# Altium footprint library Loggerhead.PcbLib: 175 footprints (part 8 of 11)
Each footprint in its own frame and in the unit in brackets; x right, y up, seen from the top. Pads: shape width x height; smd on the part's side, far side on the other; paste and mask are expansions set on the pad; w line width, h text height; cw(c..) or ccw(c..) is an arc to the next point about the centre after c.
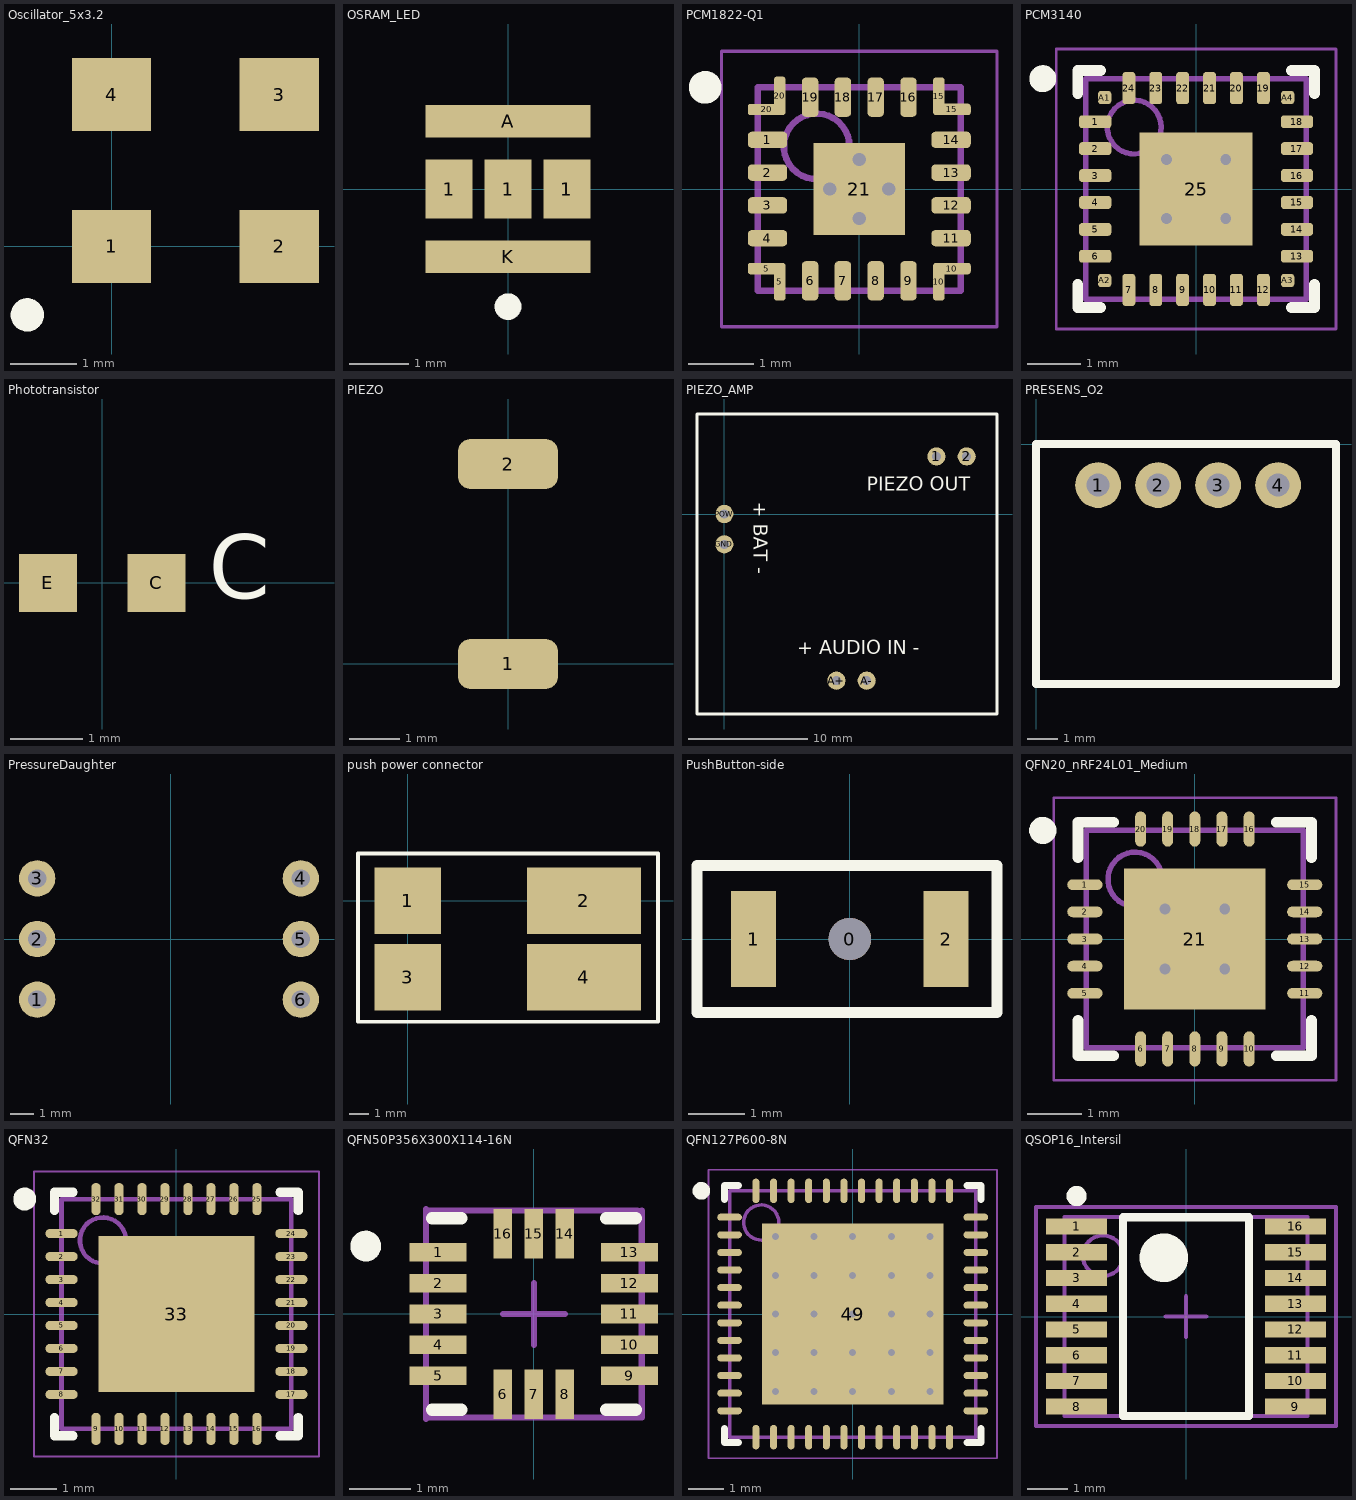
[diagram p7: the footprints below, top view; thin cyan lines are the x and y axes]

## Oscillator_5x3.2 [mm] "Abracon ASFLMB"
height 0.85
pads (4):
  rect 1.2x1.1 smd: 1(0,0) 2(2.54,0) 3(2.54,2.3) 4(0,2.3)
Top Overlay:
  circle w0.254: c-1.275,-1.035 r0.125

## OSRAM_LED [mm] "OSRAM LUW CN5M"
height 2.35
pads (5):
  rect 0.8x1 smd mask+0: 1(-1,0) 1(0,0) 1(1,0)
  rect 2.8x0.55 smd: A(0,1.15) K(0,-1.15)
Top Overlay:
  circle w0.254: c0,-2 r0.1

## PCM1822-Q1 [mm] "QFN, 16-Leads, Body 3.00x3.00mm, Pitch 0.50mm, Thermal Pad 1.40x1.40mm, IPC Medium Density"
height 0.8
pads (25):
  rrect50% 0.6x0.25 smd mask+0.07: 1(-1.4,0.75) 2(-1.4,0.25) 3(-1.4,-0.25) 4(-1.4,-0.75) 11(1.4,-0.75) 12(1.4,-0.25) 13(1.4,0.25) 14(1.4,0.75)
  rrect50% 0.575x0.175 smd mask+0.07: 5(-1.413,-1.213) 10(1.412,-1.213) 15(1.412,1.213) 20(-1.412,1.213)
  rrect50% 0.175x0.575 smd mask+0.07: 5(-1.213,-1.412) 10(1.212,-1.412) 15(1.212,1.412) 20(-1.213,1.426)
  rrect50% 0.25x0.6 smd mask+0.07: 6(-0.75,-1.4) 7(-0.25,-1.4) 8(0.25,-1.4) 9(0.75,-1.4) 16(0.75,1.4) 17(0.25,1.4) 18(-0.25,1.4) 19(-0.75,1.4)
  rect 1.4x1.4 smd paste-0.1 mask+0.07: 21(0,0)
via 0.45,0 diameter 0.3 hole 0.2
via 0,0.45 diameter 0.3 hole 0.2
via 0,-0.45 diameter 0.3 hole 0.2
via -0.45,0 diameter 0.3 hole 0.2
Top Overlay:
  circle w0.25: c-2.35,1.55 r0.125
Mechanical 13:
  circle w0.1: c-0.65,0.65 r0.5
  lines w0.1: -1.55,-1.55 -1.55,1.55 1.55,1.55 1.55,-1.55 -1.55,-1.55
Mechanical 15:
  lines w0.05: -2.1,-2.1 -2.1,2.1 2.1,2.1 2.1,-2.1 -2.1,-2.1
  lines w0.1: -0.5,0 0.5,0 ; 0,-0.5 0,0.5
3D body: height 0.8, standoff 0.1, extent -1.55,-1.55 1.55,1.55

## PCM3140 [mm] "QFN, 24-Leads, Body 4.00x4.00mm, Pitch 0.50mm, Thermal Pad 2.10x2.10mm, IPC Medium Density"
height 1
pads (29):
  rrect50% 0.6x0.24 smd mask+0.07: 1(-1.875,1.25) 2(-1.875,0.75) 3(-1.875,0.25) 4(-1.875,-0.25) 5(-1.875,-0.75) 6(-1.875,-1.25) 13(1.875,-1.25) 14(1.875,-0.75) 15(1.875,-0.25) 16(1.875,0.25) 17(1.875,0.75) 18(1.875,1.25)
  rrect50% 0.24x0.6 smd mask+0.07: 7(-1.25,-1.875) 8(-0.75,-1.875) 9(-0.25,-1.875) 10(0.25,-1.875) 11(0.75,-1.875) 12(1.25,-1.875) 19(1.25,1.875) 20(0.75,1.875) 21(0.25,1.875) 22(-0.25,1.875) 23(-0.75,1.875) 24(-1.25,1.875)
  rect 2.1x2.1 smd paste-0.15: 25(0,0)
  rrect50% 0.25x0.25 smd mask+0.07: A1(-1.7,1.7) A2(-1.7,-1.7) A3(1.7,-1.7) A4(1.7,1.7)
via 0.55,-0.55 diameter 0.5 hole 0.2
via -0.55,-0.55 diameter 0.5 hole 0.2
via 0.55,0.55 diameter 0.5 hole 0.2
via -0.55,0.55 diameter 0.5 hole 0.2
Top Overlay:
  circle w0.25: c-2.85,2.05 r0.125
  lines w0.2: -2.2,-1.775 -2.2,-2.2 -1.775,-2.2 ; -2.2,1.775 -2.2,2.2 -1.775,2.2 ; 1.775,-2.2 2.2,-2.2 2.2,-1.775 ; 1.775,2.2 2.2,2.2 2.2,1.775
Mechanical 13:
  circle w0.1: c-1.15,1.15 r0.5
  lines w0.1: -2.05,-2.05 2.05,-2.05 2.05,2.05 -2.05,2.05 -2.05,-2.05
Mechanical 15:
  lines w0.05: -2.6,-2.6 2.6,-2.6 2.6,2.6 -2.6,2.6 -2.6,-2.6
  lines w0.1: -0.5,0 0.5,0 ; 0,-0.5 0,0.5
3D body: height 1, standoff 0.05, extent -2.05,-2.05 2.05,2.05

## Phototransistor [mm]
pads (2):
  rect 0.8x0.8 smd: C(0.75,0) E(-0.75,0)
Top Overlay:
  text "C" at 1.475,-0.5 h1.52

## PIEZO [mm]
pads (2):
  rrect50% 2x1 smd: 1(0,0) 2(0,4)

## PIEZO_AMP [mil] "SONITRON PAA-LM4960SQ-02"
pads (6):
  round 60 hole 30: 1(700,190) 2(800,190) A+(370,-550) A-(470,-550) GND(0,-100) POW(0,0)
Top Overlay:
  lines w10: -90,-660 900,-660 900,330 -90,330 -90,-660
  text "PIEZO OUT" at 470,60 h78.74
  text "+ AUDIO IN -" at 240,-480 h78.74
  text "+ BAT -" at 80,40 h78.74

## PRESENS_O2 [mil]
height 284.65
pads (4):
  round 60 hole 30: 1(81.5,-53.94) 2(160.24,-53.94) 3(238.98,-53.94) 4(317.72,-53.94)
Top Overlay:
  lines w10: 0,-314.96 393.7,-314.96 393.7,0 0,0 0,-314.96
3D body: height 284.65, standoff 0, extent 0,-314.96 393.7,0

## PressureDaughter [mil]
pads (6):
  round 60 hole 30: 1(-220,-100) 2(-220,0) 3(-220,100) 4(215,100) 5(215,0) 6(215,-100)

## push power connector [mm]
pads (4):
  rect 3.5x3.5 smd: 1(0,0) 3(0,-4)
  rect 6x3.5 smd paste-0.5: 2(9.25,0) 4(9.25,-4)
Top Overlay:
  lines w0.2: -2.625,-6.35 13.15,-6.35 13.15,2.5 -2.625,2.5 -2.625,-6.35

## PushButton-side [mm]
pads (3):
  round 0.75 hole 0.75 unplated: 0(0,0)
  rect 0.8x1.7 smd: 1(-1.7,0) 2(1.7,0)
Top Overlay:
  lines w0.2: -2.7,-1.3 -2.7,1.3 2.6,1.3 2.6,-1.3 -2.7,-1.3

## QFN20_nRF24L01_Medium [mm]
height 0.85
pads (21):
  oval 0.65x0.2 smd: 1(-2.025,1) 2(-2.025,0.5) 3(-2.025,0) 4(-2.025,-0.5) 5(-2.025,-1) 11(2.025,-1) 12(2.025,-0.5) 13(2.025,0) 14(2.025,0.5) 15(2.025,1)
  oval 0.2x0.65 smd: 6(-1,-2.025) 7(-0.5,-2.025) 8(0,-2.025) 9(0.5,-2.025) 10(1,-2.025) 16(1,2.025) 17(0.5,2.025) 18(0,2.025) 19(-0.5,2.025) 20(-1,2.025)
  rect 2.6x2.6 smd: 21(0,0)
via -0.55,0.55 diameter 0.5 hole 0.2
via 0.55,0.55 diameter 0.5 hole 0.2
via -0.55,-0.55 diameter 0.5 hole 0.2
via 0.55,-0.55 diameter 0.5 hole 0.2
Top Overlay:
  circle w0.25: c-2.8,2 r0.125
  lines w0.2: -2.15,-1.5 -2.15,-2.15 -1.5,-2.15 ; -2.15,1.5 -2.15,2.15 -1.5,2.15 ; 1.5,-2.15 2.15,-2.15 2.15,-1.5 ; 1.5,2.15 2.15,2.15 2.15,1.5
Mechanical 13:
  circle w0.1: c-1.1,1.1 r0.5
  lines w0.1: -2,-2 -2,2 2,2 2,-2 -2,-2
Mechanical 15:
  lines w0.05: -2.6,-2.6 -2.6,2.6 2.6,2.6 2.6,-2.6 -2.6,-2.6
  lines w0.1: -0.5,0 0.5,0 ; 0,-0.5 0,0.5
3D body: height 0.85, standoff 0.02, extent -2,-2 2,2

## QFN32 [mm]
height 1
pads (33):
  oval 0.7x0.2 smd: 1(-2.5,1.75) 2(-2.5,1.25) 3(-2.5,0.75) 4(-2.5,0.25) 5(-2.5,-0.25) 6(-2.5,-0.75) 7(-2.5,-1.25) 8(-2.5,-1.75) 17(2.5,-1.75) 18(2.5,-1.25) 19(2.5,-0.75) 20(2.5,-0.25) 21(2.5,0.25) 22(2.5,0.75) 23(2.5,1.25) 24(2.5,1.75)
  oval 0.2x0.7 smd: 9(-1.75,-2.5) 10(-1.25,-2.5) 11(-0.75,-2.5) 12(-0.25,-2.5) 13(0.25,-2.5) 14(0.75,-2.5) 15(1.25,-2.5) 16(1.75,-2.5) 25(1.75,2.5) 26(1.25,2.5) 27(0.75,2.5) 28(0.25,2.5) 29(-0.25,2.5) 30(-0.75,2.5) 31(-1.25,2.5) 32(-1.75,2.5)
  rect 3.4x3.4 smd paste-1.2: 33(0,0)
Top Overlay:
  circle w0.25: c-3.3,2.5 r0.125
  lines w0.2: -2.65,-2.25 -2.65,-2.65 -2.25,-2.65 ; -2.65,2.25 -2.65,2.65 -2.25,2.65 ; 2.25,-2.65 2.65,-2.65 2.65,-2.25 ; 2.25,2.65 2.65,2.65 2.65,2.25
Mechanical 13:
  circle w0.1: c-1.6,1.6 r0.5
  lines w0.1: -2.5,-2.5 -2.5,2.5 2.5,2.5 2.5,-2.5 -2.5,-2.5
Mechanical 15:
  lines w0.05: -3.1,-3.1 -3.1,3.1 3.1,3.1 3.1,-3.1 -3.1,-3.1
  lines w0.1: -0.5,0 0.5,0 ; 0,-0.5 0,0.5
3D body: height 1, standoff 0.02, extent -2.5,-2.5 2.5,2.5

## QFN50P356X300X114-16N [mm] "QFN, 16-Leads, Body 3.1x3.3mm (max), Pitch 0.50mm, IPC Medium Density"
height 1.14
pads (16):
  rect 0.925x0.3 smd: 1(-1.55,1) 2(-1.55,0.5) 3(-1.55,0) 4(-1.55,-0.5) 5(-1.55,-1) 9(1.55,-1) 10(1.55,-0.5) 11(1.55,0) 12(1.55,0.5) 13(1.55,1)
  rect 0.3x0.8 smd: 6(-0.5,-1.3) 7(0,-1.3) 8(0.5,-1.3) 14(0.5,1.3) 15(0,1.3) 16(-0.5,1.3)
Top Overlay:
  circle w0.25: c-2.725,1.1 r0.125
  lines w0.2: -1.65,-1.55 -1.175,-1.55 ; -1.65,1.55 -1.175,1.55 ; 1.175,-1.55 1.65,-1.55 ; 1.175,1.55 1.65,1.55
Mechanical 15:
  lines w0.1: -1.75,-1.7 -1.75,1.7 ; -1.75,-1.675 1.75,-1.675 1.75,1.675 ; -1.7,1.675 1.675,1.675 ; -0.5,0 0.5,0 ; 0,-0.5 0,0.5

## QFN127P600-8N [mm]
height 0.85
pads (49):
  oval 0.7x0.2 smd: 1(-3.5,2.75) 2(-3.5,2.25) 3(-3.5,1.75) 4(-3.5,1.25) 5(-3.5,0.75) 6(-3.5,0.25) 7(-3.5,-0.25) 8(-3.5,-0.75) 9(-3.5,-1.25) 10(-3.5,-1.75) 11(-3.5,-2.25) 12(-3.5,-2.75) 25(3.5,-2.75) 26(3.5,-2.25) 27(3.5,-1.75) 28(3.5,-1.25) 29(3.5,-0.75) 30(3.5,-0.25) 31(3.5,0.25) 32(3.5,0.75) 33(3.5,1.25) 34(3.5,1.75) 35(3.5,2.25) 36(3.5,2.75)
  oval 0.2x0.7 smd: 13(-2.75,-3.5) 14(-2.25,-3.5) 15(-1.75,-3.5) 16(-1.25,-3.5) 17(-0.75,-3.5) 18(-0.25,-3.5) 19(0.25,-3.5) 20(0.75,-3.5) 21(1.25,-3.5) 22(1.75,-3.5) 23(2.25,-3.5) 24(2.75,-3.5) 37(2.75,3.5) 38(2.25,3.5) 39(1.75,3.5) 40(1.25,3.5) 41(0.75,3.5) 42(0.25,3.5) 43(-0.25,3.5) 44(-0.75,3.5) 45(-1.25,3.5) 46(-1.75,3.5) 47(-2.25,3.5) 48(-2.75,3.5)
  rect 5.15x5.15 smd: 49(0,0)
via -2.2,2.2 diameter 0.5 hole 0.2
via -1.1,2.2 diameter 0.5 hole 0.2
via 0,2.2 diameter 0.5 hole 0.2
via 1.1,2.2 diameter 0.5 hole 0.2
via 2.2,2.2 diameter 0.5 hole 0.2
via -2.2,1.1 diameter 0.5 hole 0.2
via -1.1,1.1 diameter 0.5 hole 0.2
via 0,1.1 diameter 0.5 hole 0.2
via 1.1,1.1 diameter 0.5 hole 0.2
via 2.2,1.1 diameter 0.5 hole 0.2
via -2.2,0 diameter 0.5 hole 0.2
via -1.1,0 diameter 0.5 hole 0.2
via 0,0 diameter 0.5 hole 0.2
via 1.1,0 diameter 0.5 hole 0.2
via 2.2,0 diameter 0.5 hole 0.2
via -2.2,-1.1 diameter 0.5 hole 0.2
via -1.1,-1.1 diameter 0.5 hole 0.2
via 0,-1.1 diameter 0.5 hole 0.2
via 1.1,-1.1 diameter 0.5 hole 0.2
via 2.2,-1.1 diameter 0.5 hole 0.2
via -2.2,-2.2 diameter 0.5 hole 0.2
via -1.1,-2.2 diameter 0.5 hole 0.2
via 0,-2.2 diameter 0.5 hole 0.2
via 1.1,-2.2 diameter 0.5 hole 0.2
via 2.2,-2.2 diameter 0.5 hole 0.2
Top Overlay:
  circle w0.25: c-4.3,3.5 r0.125
  lines w0.2: -3.65,-3.25 -3.65,-3.65 -3.25,-3.65 ; -3.65,3.25 -3.65,3.65 -3.25,3.65 ; 3.25,-3.65 3.65,-3.65 3.65,-3.25 ; 3.25,3.65 3.65,3.65 3.65,3.25
Mechanical 13:
  circle w0.1: c-2.6,2.6 r0.5
  lines w0.1: -3.5,-3.5 -3.5,3.5 3.5,3.5 3.5,-3.5 -3.5,-3.5
Mechanical 15:
  lines w0.05: -4.1,-4.1 -4.1,4.1 4.1,4.1 4.1,-4.1 -4.1,-4.1
  lines w0.1: -0.5,0 0.5,0 ; 0,-0.5 0,0.5
3D body: height 0.85, standoff 0.02, extent -3.5,-3.5 3.5,3.5

## QSOP16_Intersil [mm]
height 1.727
pads (16):
  rect 1.5x0.4 smd: 1(-2.7,2.222) 2(-2.7,1.587) 3(-2.7,0.953) 4(-2.7,0.318) 5(-2.7,-0.318) 6(-2.7,-0.953) 7(-2.7,-1.587) 8(-2.7,-2.222) 9(2.7,-2.222) 10(2.7,-1.587) 11(2.7,-0.953) 12(2.7,-0.318) 13(2.7,0.318) 14(2.7,0.953) 15(2.7,1.587) 16(2.7,2.222)
Top Overlay:
  circle w0.25: c-2.7,2.973 r0.125
  circle w0.6: c-0.55,1.45 r0.3
  lines w0.2: -1.55,-2.45 -1.55,2.45 1.55,2.45 1.55,-2.45 -1.55,-2.45
Mechanical 13:
  circle w0.1: c-2.045,1.5 r0.5
  lines w0.1: -2.995,-2.45 -2.995,2.45 2.995,2.45 2.995,-2.45 -2.995,-2.45
Mechanical 15:
  lines w0.1: -0.5,0 0.5,0 ; 0,-0.5 0,0.5 ; -3.7,-2.7 -3.7,2.7 3.7,2.7 3.7,-2.7 -3.7,-2.7
3D body: height 1.73, standoff 0.15, extent -2.995,-2.45 2.995,2.45